# Altium footprint library C320C104M5U5TA.PcbLib: 1 footprints
Each footprint in its own frame and in the unit in brackets; x right, y up, seen from the top. Pads: shape width x height; smd on the part's side, far side on the other; paste and mask are expansions set on the pad; w line width, h text height; cw(c..) or ccw(c..) is an arc to the next point about the centre after c.
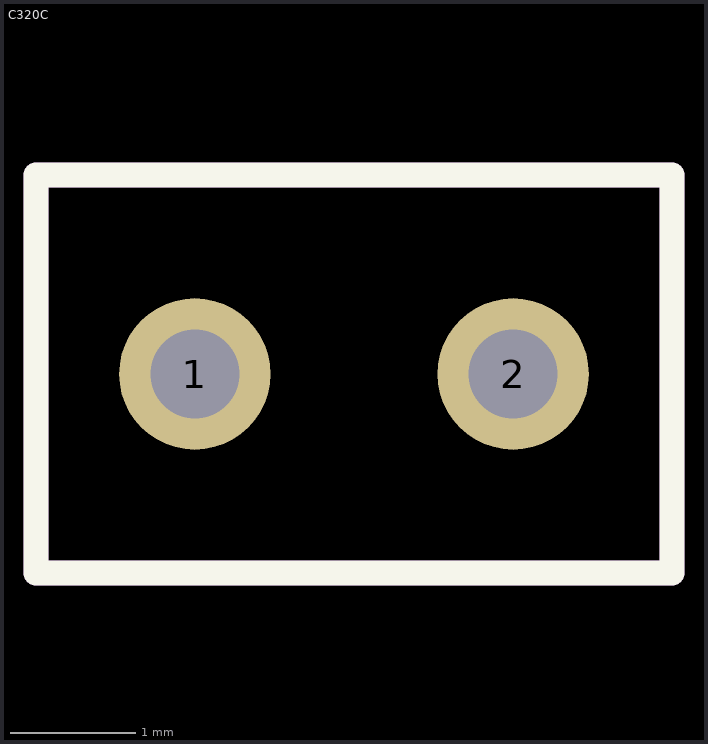
[diagram p0: the footprint, top view; thin cyan lines are the x and y axes]

## C320C [mm]
pads (2):
  round 1.21 hole 0.71: 1(-8.27,-7) 2(-5.73,-7)
Top Overlay:
  lines w0.2: -9.54,-8.59 -9.54,-5.41 -4.46,-5.41 -4.46,-8.59 -9.54,-8.59
Mechanical 13:
  lines w0.2: -9.54,-8.59 -9.54,-5.41 -4.46,-5.41 -4.46,-8.59 -9.54,-8.59